# EAGLE library part PINHD-2X4 (library pinhead2)
PIN HEADER
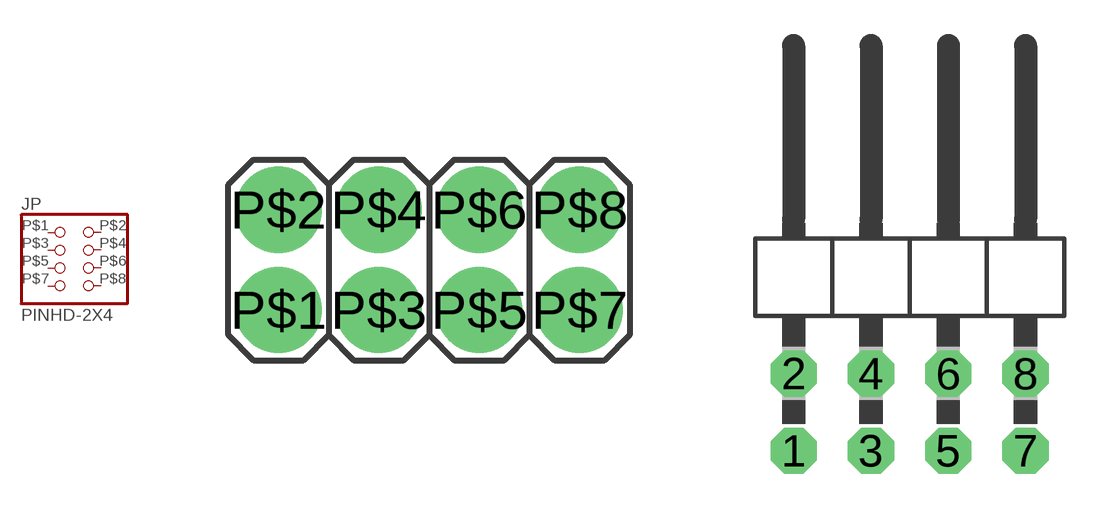
[diagram p16: symbol with the pads of 2X04; footprints 2X04, 2X04/90]

Designator prefix JP

## PINHD-2X4  [2X04]
P$1  1  pas
P$2  2  pas
P$3  3  pas
P$4  4  pas
P$5  5  pas
P$6  6  pas
P$7  7  pas
P$8  8  pas

## PINHD-2X4/90  [2X04/90]
1  1  pas
2  2  pas
3  3  pas
4  4  pas
5  5  pas
6  6  pas
7  7  pas
8  8  pas

## Footprint 2X04 (pad centres in mm)
PIN HEADER
drill 0.9 pad 2.184: P$1 -3.81,-1.27; P$2 -3.81,1.27; P$3 -1.27,-1.27; P$4 -1.27,1.27; P$5 1.27,-1.27; P$6 1.27,1.27; P$7 3.81,-1.27; P$8 3.81,1.27

## Footprint 2X04/90 (pad centres in mm)
PIN HEADER
drill 1.016 octagon: 1 -3.81,-6.35; 2 -3.81,-3.81; 3 -1.27,-6.35; 4 -1.27,-3.81; 5 1.27,-6.35; 6 1.27,-3.81; 7 3.81,-6.35; 8 3.81,-3.81